# EAGLE library part U?-* (library ductapemaster_custom)
KEMET UA2/UB2 SERIES RELAY DPDT, non-latching
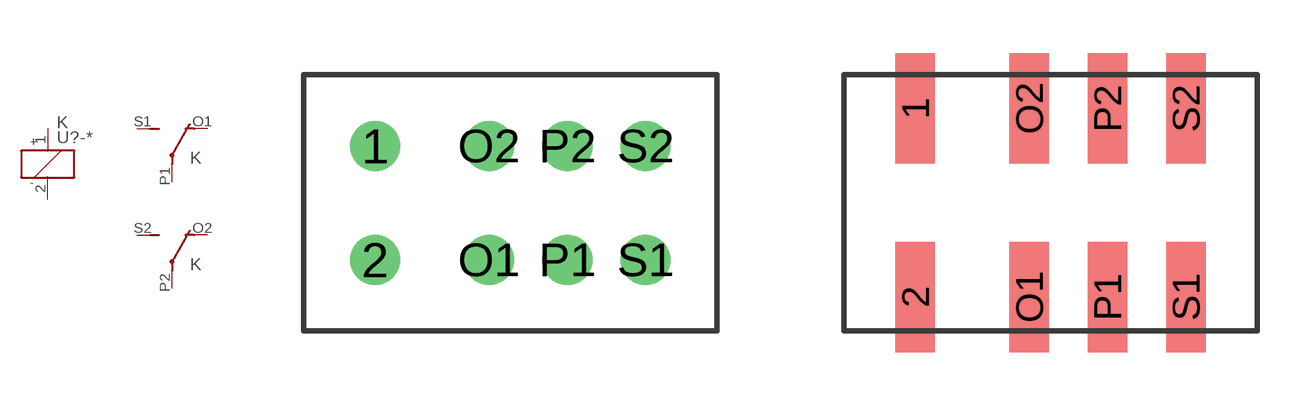
[diagram p0: symbol with the pads of UA2; footprints UA2, UB2]

Designator prefix K; gates 1=K 2=U 3=U

## UA2-12NU (MFG: KEMET; MPN: UA2-12NU), UA2-24NU (MFG: KEMET; MPN: UA2-24NU), UA2-3NU (MFG: KEMET; MPN: UA2-3NU), UA2-4.5NU (MFG: KEMET; MPN: UA2-4.5NU), UA2-5NU (MFG: KEMET; MPN: UA2-5NU)  [UA2]
1  1:1  pas
2  1:2  pas
O1  2:O  pas
O2  3:O  pas
P1  2:P  pas
P2  3:P  pas
S1  2:S  pas
S2  3:S  pas

## UB2-12NU (MFG: KEMET; MPN: UB2-12NU), UB2-24NU (MFG: KEMET; MPN: UB2-24NU), UB2-3NU (MFG: KEMET; MPN: UB2-3NU), UB2-4.5NU (MFG: KEMET; MPN: UB2-4.5NU), UB2-5NU (MFG: KEMET; MPN: UB2-5NU)  [UB2]
Pads as for UA2

## Footprint UA2 (pad centres in mm)
KEMET UA2 SERIES RELAY DPDT, non-latching
drill 0.9: 1 0,1.6; 2 0,-1.6; O1 3.2,-1.6; O2 3.2,1.6; P1 5.4,-1.6; P2 5.4,1.6; S1 7.6,-1.6; S2 7.6,1.6

## Footprint UB2 (pad centres in mm)
KEMET UA2 SERIES RELAY DPDT, non-latching
smd 1.11 x 3.1: 1 0,2.65; 2 0,-2.65; O1 3.2,-2.65; O2 3.2,2.65; P1 5.4,-2.65; P2 5.4,2.65; S1 7.6,-2.65; S2 7.6,2.65